# EAGLE library part USB2.0-TYPE-C (library USB_C)
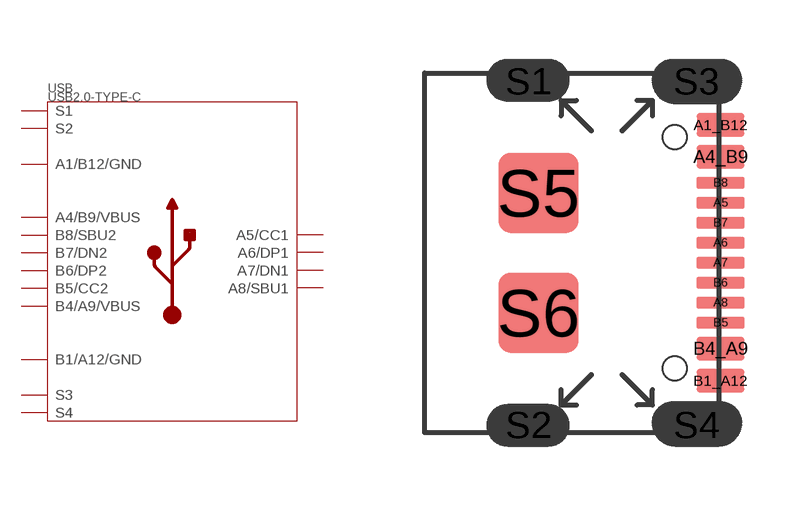
[diagram p0: symbol with the pads of USB2.0-TYPE-C; footprint USB2.0-TYPE-C]

Designator prefix USB

## USB2.0-TYPE-C  [USB2.0-TYPE-C]
A1_B12  A1/B12/GND
A4_B9  A4/B9/VBUS
A5  A5/CC1
A6  A6/DP1
A7  A7/DN1
A8  A8/SBU1
B1_A12  B1/A12/GND
B4_A9  B4/A9/VBUS
B5  B5/CC2
B6  B6/DP2
B7  B7/DN2
B8  B8/SBU2
S1  S1
S2  S2
S3  S3
S4  S4
S5  S1
S6  S2

## Footprint USB2.0-TYPE-C (pad centres in mm)
smd 1.2 x 0.6: A1_B12 0.05,3.2; A4_B9 0.05,2.4; B1_A12 0.05,-3.2; B4_A9 0.05,-2.4
smd 1.2 x 0.3: A5 0.05,1.25; A6 0.05,0.25; A7 0.05,-0.25; A8 0.05,-1.25; B5 0.05,-1.75; B6 0.05,-0.75; B7 0.05,0.75; B8 0.05,1.75
drill 0.508 pad 0.889 long: S1 -4.75,4.3; S2 -4.75,-4.3
drill 0.508 pad 0.914 long: S3 -0.55,4.3; S4 -0.55,-4.3
smd 2 x 2: S5 -4.5,1.5; S6 -4.5,-1.5
hole 0.6 at -1.1,-2.89
hole 0.6 at -1.1,2.89